# Altium footprint library TO254P450X1020X450-3N.PcbLib: 1 footprints
Each footprint in its own frame and in the unit in brackets; x right, y up, seen from the top. Pads: shape width x height; smd on the part's side, far side on the other; paste and mask are expansions set on the pad; w line width, h text height; cw(c..) or ccw(c..) is an arc to the next point about the centre after c.
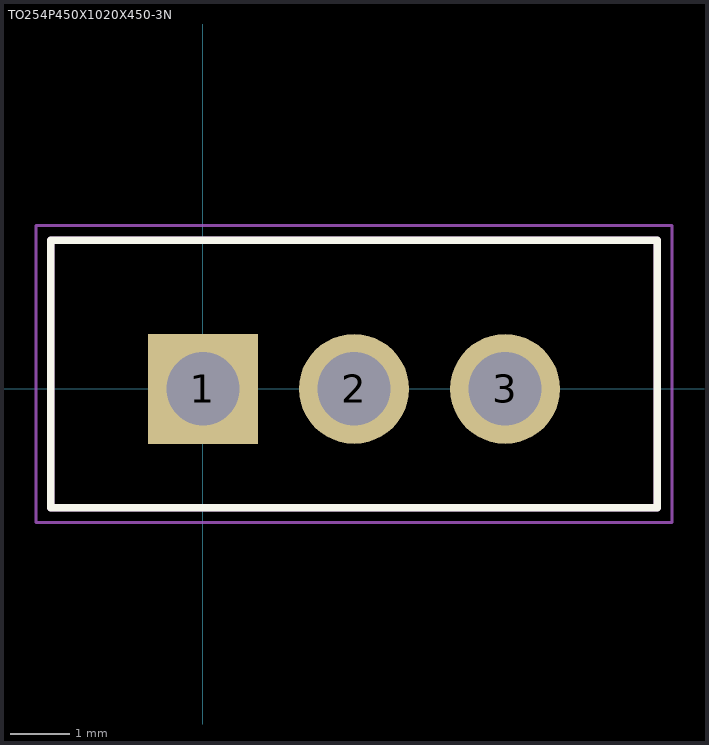
[diagram p0: the footprint, top view; thin cyan lines are the x and y axes]

## TO254P450X1020X450-3N [mil] "Flange Mount (TO-220) Vertical, 2.54 mm pitch; 3 pin, 10.20 mm W X 4.50 mm H Body"
height 740.16
pads (3):
  rect 72.72x72.72 / inner round 72.72 / far side rect 72.72x72.72 hole 48.5 paste-72.72: 1(0,0)
  round 72.72 hole 48.5 paste-72.72: 2(100,0) 3(200,0)
Top Overlay:
  lines w4.72: -100.79,-78.74 300.79,-78.74 300.79,98.43 -100.79,98.43 -100.79,-78.74
Mechanical 3:
  lines w4.72: -100.79,-78.74 300.79,-78.74 300.79,98.43 -100.79,98.43 -100.79,-78.74
Mechanical 5:
  lines w0.98: -100.79,-78.74 300.79,-78.74 300.79,98.43 -100.79,98.43 -100.79,-78.74 ; -17.72,-11.81 -17.72,11.81 17.72,11.81 17.72,-11.81 -17.72,-11.81 ; 82.28,-11.81 82.28,11.81 117.72,11.81 117.72,-11.81 82.28,-11.81 ; 182.28,-11.81 182.28,11.81 217.72,11.81 217.72,-11.81 182.28,-11.81
Mechanical 7:
  circle w1.97: c0,0 r9.84
  lines w1.97: -13.78,0 13.78,0 ; 0,-13.78 0,13.78 ; -110.63,-88.58 310.63,-88.58 310.63,108.27 -110.63,108.27 -110.63,-88.58
Mechanical 9:
  text "'.Designator'" at -195,149.99 h60
3D body "TO254P450X1020X450-3.STEP": height 740.16, standoff -78.74, extent -100.79,-78.74 300.79,98.43
3D body: height 143.7, standoff -143.7, extent -111,-88.58 310.63,108.27